# EAGLE library part ESP32DEVKITC (library ESP32)
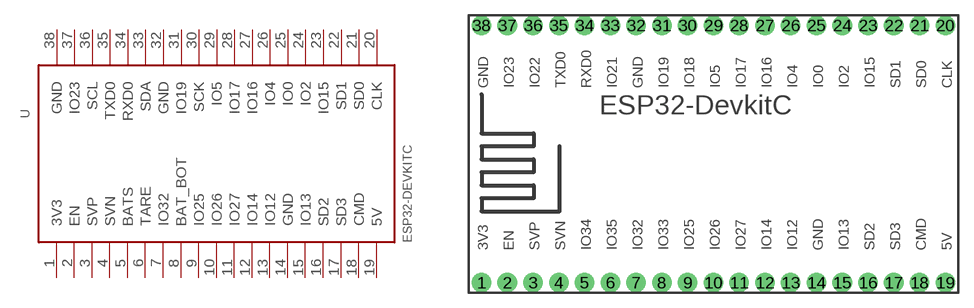
[diagram p0: symbol with the pads of ESP32-DEVKITC; footprint ESP32-DEVKITC]

Designator prefix -

## ESP32DEVKITC  [ESP32-DEVKITC]
1  3V3
2  EN
3  SVP
4  SVN
5  BATS
6  TARE
7  IO32
8  BAT_BOT
9  IO25
10  IO26
11  IO27
12  IO14
13  IO12
14  GND
15  IO13
16  SD2
17  SD3
18  CMD
19  5V
20  CLK
21  SD0
22  SD1
23  IO15
24  IO2
25  IO0
26  IO4
27  IO16
28  IO17
29  IO5
30  SCK
31  IO19
32  GND
33  SDA
34  RXD0
35  TXD0
36  SCL
37  IO23
38  GND

## Footprint ESP32-DEVKITC (pad centres in mm)
drill 1 pad 1.93: 1 -22.87,-12.7; 2 -20.33,-12.7; 3 -17.79,-12.7; 4 -15.25,-12.7; 5 -12.71,-12.7; 6 -10.17,-12.7; 7 -7.63,-12.7; 8 -5.09,-12.7; 9 -2.55,-12.7; 10 -0.01,-12.7; 11 2.53,-12.7; 12 5.07,-12.7; 13 7.61,-12.7; 14 10.15,-12.7; 15 12.69,-12.7; 16 15.23,-12.7; 17 17.77,-12.7; 18 20.31,-12.7; 19 22.85,-12.7; 20 22.85,12.7; 21 20.31,12.7; 22 17.77,12.7; 23 15.23,12.7; 24 12.69,12.7; 25 10.15,12.7; 26 7.61,12.7; 27 5.07,12.7; 28 2.53,12.7; 29 -0.01,12.7; 30 -2.55,12.7; 31 -5.09,12.7; 32 -7.63,12.7; 33 -10.17,12.7; 34 -12.71,12.7; 35 -15.25,12.7; 36 -17.79,12.7; 37 -20.33,12.7; 38 -22.87,12.7